# Altium footprint library AHD Shield Template PCBLib.PcbLib: 9 footprints
Each footprint in its own frame and in the unit in brackets; x right, y up, seen from the top. Pads: shape width x height; smd on the part's side, far side on the other; paste and mask are expansions set on the pad; w line width, h text height; cw(c..) or ccw(c..) is an arc to the next point about the centre after c.
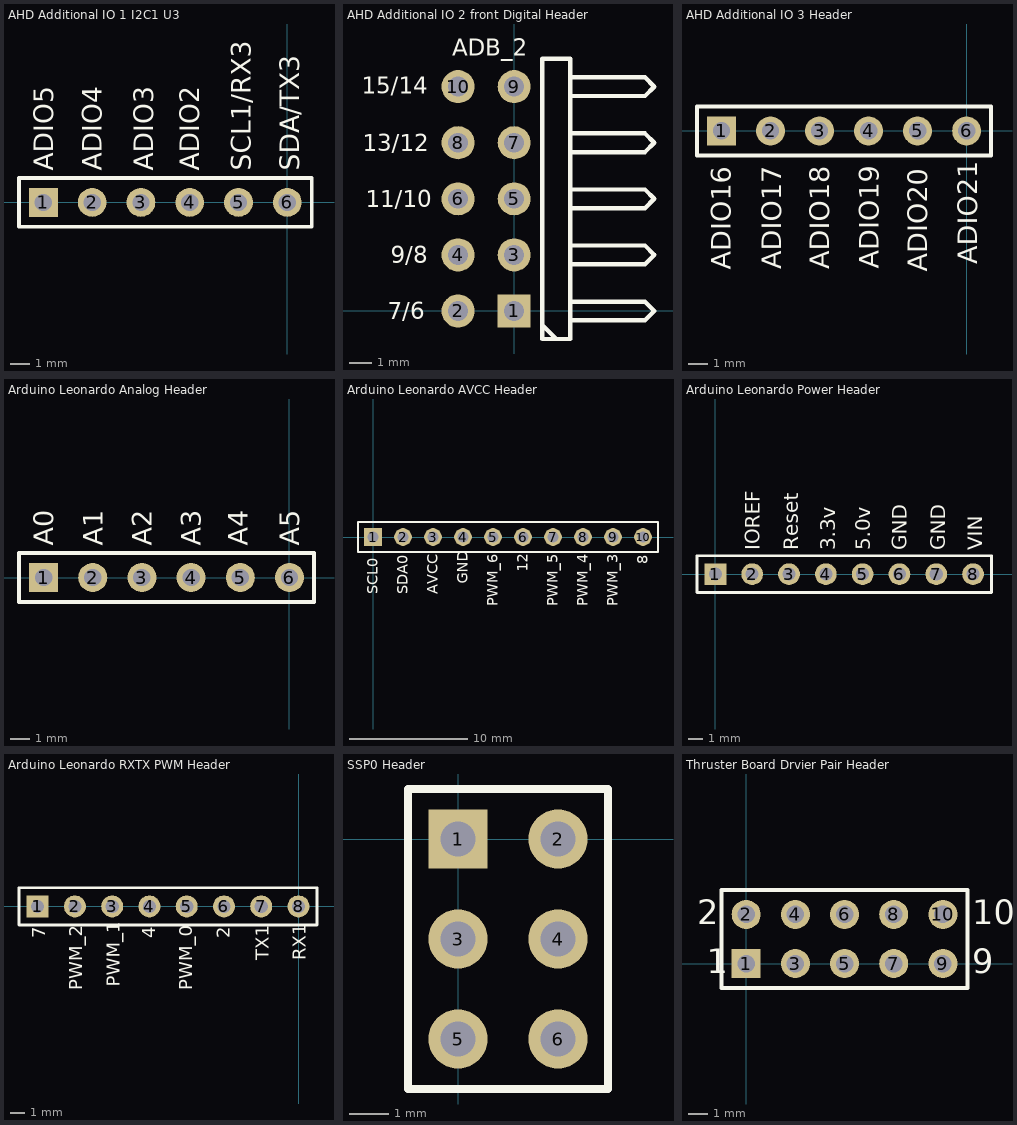
[diagram p0: the footprints below, top view; thin cyan lines are the x and y axes]

## AHD Additional IO 1 I2C1 U3 [mm] "Connector; Header; 6 Position"
height 1
pads (6):
  rect 1.5x1.5 hole 0.9: 1(-12.7,0)
  round 1.5 hole 0.9: 2(-10.16,0) 3(-7.62,0) 4(-5.08,0) 5(-2.54,0) 6(0,0)
Top Overlay:
  lines w0.2: -13.97,-1.27 1.27,-1.27 1.27,1.27 -13.97,1.27 -13.97,-1.27
  text "SDA/TX3" at 0.635,1.651 h1.02
  text "SCL1/RX3" at -1.905,1.651 h1.02
  text "ADIO2" at -4.572,1.651 h1.02
  text "ADIO3" at -6.985,1.651 h1.02
  text "ADIO4" at -9.652,1.651 h1.02
  text "ADIO5" at -12.192,1.651 h1.02

## AHD Additional IO 2 front Digital Header [mm] "Connector; Header; 5x2 Position; Right Angle"
height 1
pads (10):
  rect 1.5x1.5 hole 0.9: 1(0,0)
  round 1.5 hole 0.9: 2(-2.54,0) 3(0,2.54) 4(-2.54,2.54) 5(0,5.08) 6(-2.54,5.08) 7(0,7.62) 8(-2.54,7.62) 9(0,10.16) 10(-2.54,10.16)
Top Overlay:
  lines w0.2: 1.27,-0.635 1.905,-1.27 ; 2.54,-0.423 5.927,-0.423 6.35,0 5.927,0.423 2.54,0.423 ; 2.54,2.117 5.927,2.117 6.35,2.54 5.927,2.963 2.54,2.963 ; 2.54,4.657 5.927,4.657 6.35,5.08 5.927,5.503 2.54,5.503 ; 2.54,7.197 5.927,7.197 6.35,7.62 5.927,8.043 2.54,8.043 ; 2.54,9.737 5.927,9.737 6.35,10.16 5.927,10.583 2.54,10.583 ; 1.27,-1.27 2.54,-1.27 2.54,11.43 1.27,11.43 1.27,-1.27
  text "7/6" at -5.715,-0.381 h0.76
  text "9/8" at -5.588,2.159 h0.76
  text "11/10" at -6.731,4.699 h0.76
  text "13/12" at -6.858,7.239 h0.76
  text "15/14" at -6.909,9.83 h0.76
  text "ADB_2" at -2.794,11.557 h0.76

## AHD Additional IO 3 Header [mm] "Connector; Header; 6 Position"
height 1
pads (6):
  rect 1.5x1.5 hole 0.9: 1(-12.7,0)
  round 1.5 hole 0.9: 2(-10.16,0) 3(-7.62,0) 4(-5.08,0) 5(-2.54,0) 6(0,0)
Top Overlay:
  lines w0.2: -13.97,-1.27 -13.97,1.27 1.27,1.27 1.27,-1.27 -13.97,-1.27
  text "ADIO16" at -12.217,-7.188 h1.02
  text "ADIO17" at -9.601,-7.163 h1.02
  text "ADIO18" at -7.112,-7.163 h1.02
  text "ADIO19" at -4.547,-7.137 h1.02
  text "ADIO20" at -2.032,-7.29 h1.02
  text "ADIO21" at 0.559,-6.909 h1.02

## Arduino Leonardo Analog Header [mm] "Connector; Header; 6 Position"
pads (6):
  rect 1.5x1.5 hole 0.9: 1(-12.7,0)
  round 1.5 hole 0.9: 2(-10.16,0) 3(-7.62,0) 4(-5.08,0) 5(-2.54,0) 6(0,0)
Top Overlay:
  lines w0.2: -13.97,-1.27 -13.97,1.27 1.27,1.27 1.27,-1.27 -13.97,-1.27
  text "A0" at -12.192,1.651 h1.02
  text "A1" at -9.652,1.651 h1.02
  text "A3" at -4.572,1.651 h1.02
  text "A2" at -7.112,1.651 h1.02
  text "A4" at -2.159,1.651 h1.02
  text "A5" at 0.508,1.651 h1.02

## Arduino Leonardo AVCC Header [mm]
pads (10):
  rect 1.5x1.5 hole 0.9: 1(0,0)
  round 1.5 hole 0.9: 2(2.54,0) 3(5.08,0) 4(7.62,0) 5(10.16,0) 6(12.7,0) 7(15.24,0) 8(17.78,0) 9(20.32,0) 10(22.86,0)
Top Overlay:
  lines w0.2: -1.27,-1.27 -1.27,1.27 0.635,1.27 24.13,1.27 24.13,-1.27 -1.27,-1.27
  text "PWM_6" at 10.541,-5.842 h0.89
  text "SDA0" at 2.921,-4.826 h0.89
  text "SCL0" at 0.381,-4.826 h0.89
  text "8" at 23.241,-2.286 h0.89
  text "GND" at 8.001,-3.937 h0.89
  text "PWM_5" at 15.621,-5.842 h0.89
  text "PWM_4" at 18.161,-5.842 h0.89
  text "PWM_3" at 20.701,-5.842 h0.89
  text "12" at 13.081,-2.921 h0.89
  text "AVCC" at 5.461,-4.826 h0.89

## Arduino Leonardo Power Header [mm] "Connector; Header; 8 Position"
pads (8):
  rect 1.5x1.5 hole 0.9: 1(0,0)
  round 1.5 hole 0.9: 2(2.54,0) 3(5.08,0) 4(7.62,0) 5(10.16,0) 6(12.7,0) 7(15.24,0) 8(17.78,0)
Top Overlay:
  lines w0.2: -1.27,-1.27 -1.27,1.27 19.05,1.27 19.05,-1.27 -1.27,-1.27
  text "Reset" at 5.715,1.651 h1.02
  text "3.3v" at 8.255,1.651 h1.02
  text "5.0v" at 10.668,1.651 h1.02
  text "GND" at 15.875,1.651 h1.02
  text "GND" at 13.208,1.651 h1.02
  text "VIN" at 18.415,1.651 h1.02
  text "IOREF" at 3.048,1.651 h1.02

## Arduino Leonardo RXTX PWM Header [mm] "Arduino Leonardo Header"
pads (8):
  rect 1.5x1.5 hole 0.9: 1(-17.78,0)
  round 1.5 hole 0.9: 2(-15.24,0) 3(-12.7,0) 4(-10.16,0) 5(-7.62,0) 6(-5.08,0) 7(-2.54,0) 8(0,0)
Top Overlay:
  lines w0.2: -19.05,-1.27 1.27,-1.27 1.27,1.27 -19.05,1.27 -19.05,-1.27
  text "PWM_2" at -14.732,-5.715 h0.89
  text "PWM_1" at -12.192,-5.461 h0.89
  text "7" at -17.272,-2.159 h0.89
  text "4" at -9.779,-2.159 h0.89
  text "PWM_0" at -7.239,-5.715 h0.89
  text "2" at -4.699,-2.159 h0.89
  text "TX1" at -2.032,-3.683 h0.89
  text "RX1" at 0.508,-3.683 h0.89

## SSP0 Header [mm] "SSP0 is ARM's SPI variant, fully implements SPI SSI and adds new features"
pads (6):
  rect 1.5x1.5 hole 0.9: 1(0,0)
  round 1.5 hole 0.9: 2(2.54,0) 3(0,-2.54) 4(2.54,-2.54) 5(0,-5.08) 6(2.54,-5.08)
Top Overlay:
  lines w0.2: -1.27,-1.482 -1.27,-6.35 ; -1.27,-6.35 -1.27,1.27 3.81,1.27 3.81,-6.35 -1.27,-6.35

## Thruster Board Drvier Pair Header [mm] "Connector; Header; 5x2 Position"
height 1
pads (10):
  rect 1.5x1.5 hole 0.9: 1(0,0)
  round 1.5 hole 0.9: 2(0,2.54) 3(2.54,0) 4(2.54,2.54) 5(5.08,0) 6(5.08,2.54) 7(7.62,0) 8(7.62,2.54) 9(10.16,0) 10(10.16,2.54)
Top Overlay:
  lines w0.2: -1.27,-1.27 11.43,-1.27 11.43,3.81 -1.27,3.81 -1.27,-1.27
  text "10" at 11.684,2.032 h1.27
  text "9" at 11.684,-0.508 h1.27
  text "1" at -2.032,-0.508 h1.27
  text "2" at -2.54,2.032 h1.27